# EAGLE library part FSQ0270RNA (library Fairchild_By_element14_Batch_1)
Green Mode Fairchild Power Switch
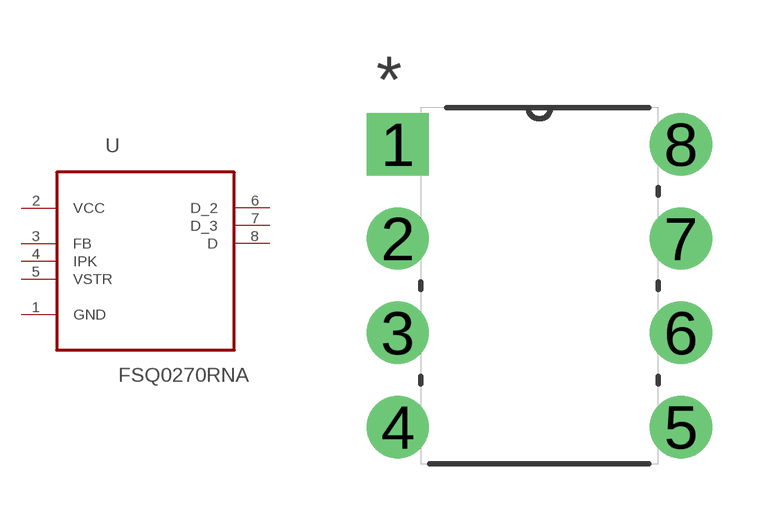
[diagram p193: symbol with the pads of DIP254P762X508-8; footprint DIP254P762X508-8]

Designator prefix U

## FSQ0270RNA (MPN: FSQ0270RNA; OC_FARNELL: 1495503; OC_NEWARK: 52M3332; PACKAGE: DIP-8; SUPPLIER: FAIRCHILD SEMICONDUCTOR)  [DIP254P762X508-8]
1  GND  pas
2  VCC  pwr
3  FB  in
4  IPK  in
5  VSTR  pas
6  D_2  out
7  D_3  out
8  D  out

## Footprint DIP254P762X508-8 (pad centres in mm)
drill 1.118 square: 1 -7.62,7.62
drill 1.118: 2 -7.62,5.08; 3 -7.62,2.54; 4 -7.62,0; 5 0,0; 6 0,2.54; 7 0,5.08; 8 0,7.62